# EAGLE library part M08 (library work)
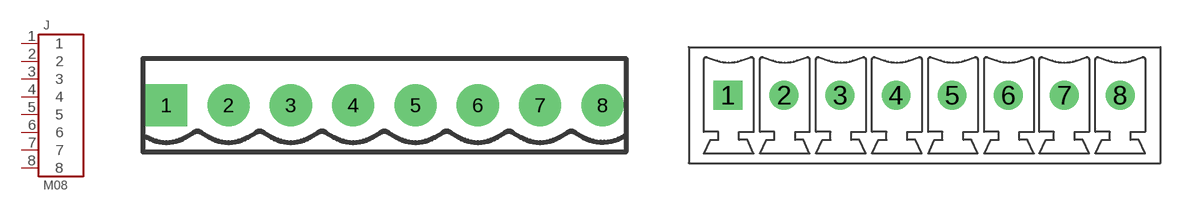
[diagram p80: symbol with the pads of M08; footprints M08, M08-3.5MM]

Designator prefix J

## M08-5MM  [M08]
1  1
2  2
3  3
4  4
5  5
6  6
7  7
8  8

## M08-3.5MM  [M08-3.5MM]
Pads as for M08

## Footprint M08 (pad centres in mm)
drill 1.778 pad 3.429 square: 1 -17.78,0
drill 1.778 pad 3.429: 2 -12.7,0; 3 -7.62,0; 4 -2.54,0; 5 2.54,0; 6 7.62,0; 7 12.7,0; 8 17.78,0

## Footprint M08-3.5MM (pad centres in mm)
drill 1.2 square: 1 -12.28,0
drill 1.2: 2 -8.78,0; 3 -5.28,0; 4 -1.78,0; 5 1.72,0; 6 5.22,0; 7 8.72,0; 8 12.22,0